# Altium schematic symbol library mikroBUS_Add-on_standard.SchLib: 1 symbol
Pins are listed as number, name and electrical type; pins without a type are passive.

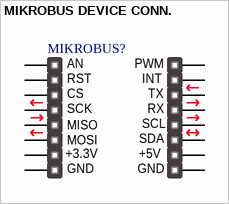
[diagram p0: symbol MIKROBUS DEVICE CONN.]

## MIKROBUS DEVICE CONN.
designator MIKROBUS?  (value not drawn)
mikroBUS Target Header
footprint MIKRO_BUS_LARGE
footprint MIKRO_BUS_MINI
footprint MIKRO_BUS_MIDI
pins: 1 AN, 2 RST, 3 CS, 4 SCK, 5 MISO, 6 MOSI, 7 3.3V, 8 GND, 9 GND, 10 5V, 11 SDA, 12 SCL, 13 TX, 14 RX, 15 INT, 16 PWM
2 alternate drawings of the same symbol
text: +3.3V; +5V